# Altium schematic symbol library SCH - MCU - STM32 - ST MICROELECTRONICS STM32G441KBUX UFQFPN32.SchLib: 1 symbol
Pins are listed as number, name and electrical type; pins without a type are passive.

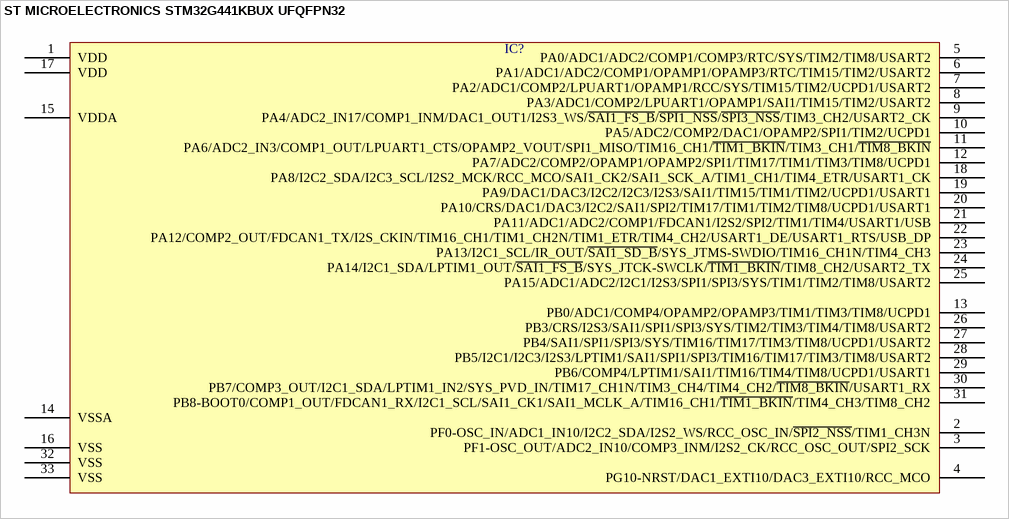
[diagram p0: symbol ST MICROELECTRONICS STM32G441KBUX UFQFPN32]

## ST MICROELECTRONICS STM32G441KBUX UFQFPN32
designator IC?  (value not drawn)
pins: 1 VDD, 2 PF0-OSC_IN/ADC1_IN10/I2C2_SDA/I2S2_WS/RCC_OSC_IN/~{SPI2_NSS}/TIM1_CH3N, 3 PF1-OSC_OUT/ADC2_IN10/COMP3_INM/I2S2_CK/RCC_OSC_OUT/SPI2_SCK, 4 PG10-NRST/DAC1_EXTI10/DAC3_EXTI10/RCC_MCO, 5 PA0/ADC1/ADC2/COMP1/COMP3/RTC/SYS/TIM2/TIM8/USART2, 6 PA1/ADC1/ADC2/COMP1/OPAMP1/OPAMP3/RTC/TIM15/TIM2/USART2, 7 PA2/ADC1/COMP2/LPUART1/OPAMP1/RCC/SYS/TIM15/TIM2/UCPD1/USART2, 8 PA3/ADC1/COMP2/LPUART1/OPAMP1/SAI1/TIM15/TIM2/USART2, 9 PA4/ADC2_IN17/COMP1_INM/DAC1_OUT1/I2S3_WS/~{SAI1_FS_B}/~{SPI1_NSS}/~{SPI3_NSS}/TIM3_CH2/USART2_CK, 10 PA5/ADC2/COMP2/DAC1/OPAMP2/SPI1/TIM2/UCPD1, 11 PA6/ADC2_IN3/COMP1_OUT/LPUART1_CTS/OPAMP2_VOUT/SPI1_MISO/TIM16_CH1/~{TIM1_BKIN}/TIM3_CH1/~{TIM8_BKIN}, 12 PA7/ADC2/COMP2/OPAMP1/OPAMP2/SPI1/TIM17/TIM1/TIM3/TIM8/UCPD1, 13 PB0/ADC1/COMP4/OPAMP2/OPAMP3/TIM1/TIM3/TIM8/UCPD1, 14 VSSA, 15 VDDA, 16 VSS, 17 VDD, 18 PA8/I2C2_SDA/I2C3_SCL/I2S2_MCK/RCC_MCO/SAI1_CK2/SAI1_SCK_A/TIM1_CH1/TIM4_ETR/USART1_CK, 19 PA9/DAC1/DAC3/I2C2/I2C3/I2S3/SAI1/TIM15/TIM1/TIM2/UCPD1/USART1, 20 PA10/CRS/DAC1/DAC3/I2C2/SAI1/SPI2/TIM17/TIM1/TIM2/TIM8/UCPD1/USART1, 21 PA11/ADC1/ADC2/COMP1/FDCAN1/I2S2/SPI2/TIM1/TIM4/USART1/USB, 22 PA12/COMP2_OUT/FDCAN1_TX/I2S_CKIN/TIM16_CH1/TIM1_CH2N/TIM1_ETR/TIM4_CH2/USART1_DE/USART1_RTS/USB_DP, 23 PA13/I2C1_SCL/IR_OUT/~{SAI1_SD_B}/SYS_JTMS-SWDIO/TIM16_CH1N/TIM4_CH3, 24 PA14/I2C1_SDA/LPTIM1_OUT/~{SAI1_FS_B}/SYS_JTCK-SWCLK/~{TIM1_BKIN}/TIM8_CH2/USART2_TX, 25 PA15/ADC1/ADC2/I2C1/I2S3/SPI1/SPI3/SYS/TIM1/TIM2/TIM8/USART2, 26 PB3/CRS/I2S3/SAI1/SPI1/SPI3/SYS/TIM2/TIM3/TIM4/TIM8/USART2, 27 PB4/SAI1/SPI1/SPI3/SYS/TIM16/TIM17/TIM3/TIM8/UCPD1/USART2, 28 PB5/I2C1/I2C3/I2S3/LPTIM1/SAI1/SPI1/SPI3/TIM16/TIM17/TIM3/TIM8/USART2, 29 PB6/COMP4/LPTIM1/SAI1/TIM16/TIM4/TIM8/UCPD1/USART1, 30 PB7/COMP3_OUT/I2C1_SDA/LPTIM1_IN2/SYS_PVD_IN/TIM17_CH1N/TIM3_CH4/TIM4_CH2/~{TIM8_BKIN}/USART1_RX, 31 PB8-BOOT0/COMP1_OUT/FDCAN1_RX/I2C1_SCL/SAI1_CK1/SAI1_MCLK_A/TIM16_CH1/~{TIM1_BKIN}/TIM4_CH3/TIM8_CH2, 32 VSS, 33 VSS